# Altium footprint library CHXXX.pcblib: 161 footprints (part 7 of 11)
Each footprint in its own frame and in the unit in brackets; x right, y up, seen from the top. Pads: shape width x height; smd on the part's side, far side on the other; paste and mask are expansions set on the pad; w line width, h text height; cw(c..) or ccw(c..) is an arc to the next point about the centre after c.
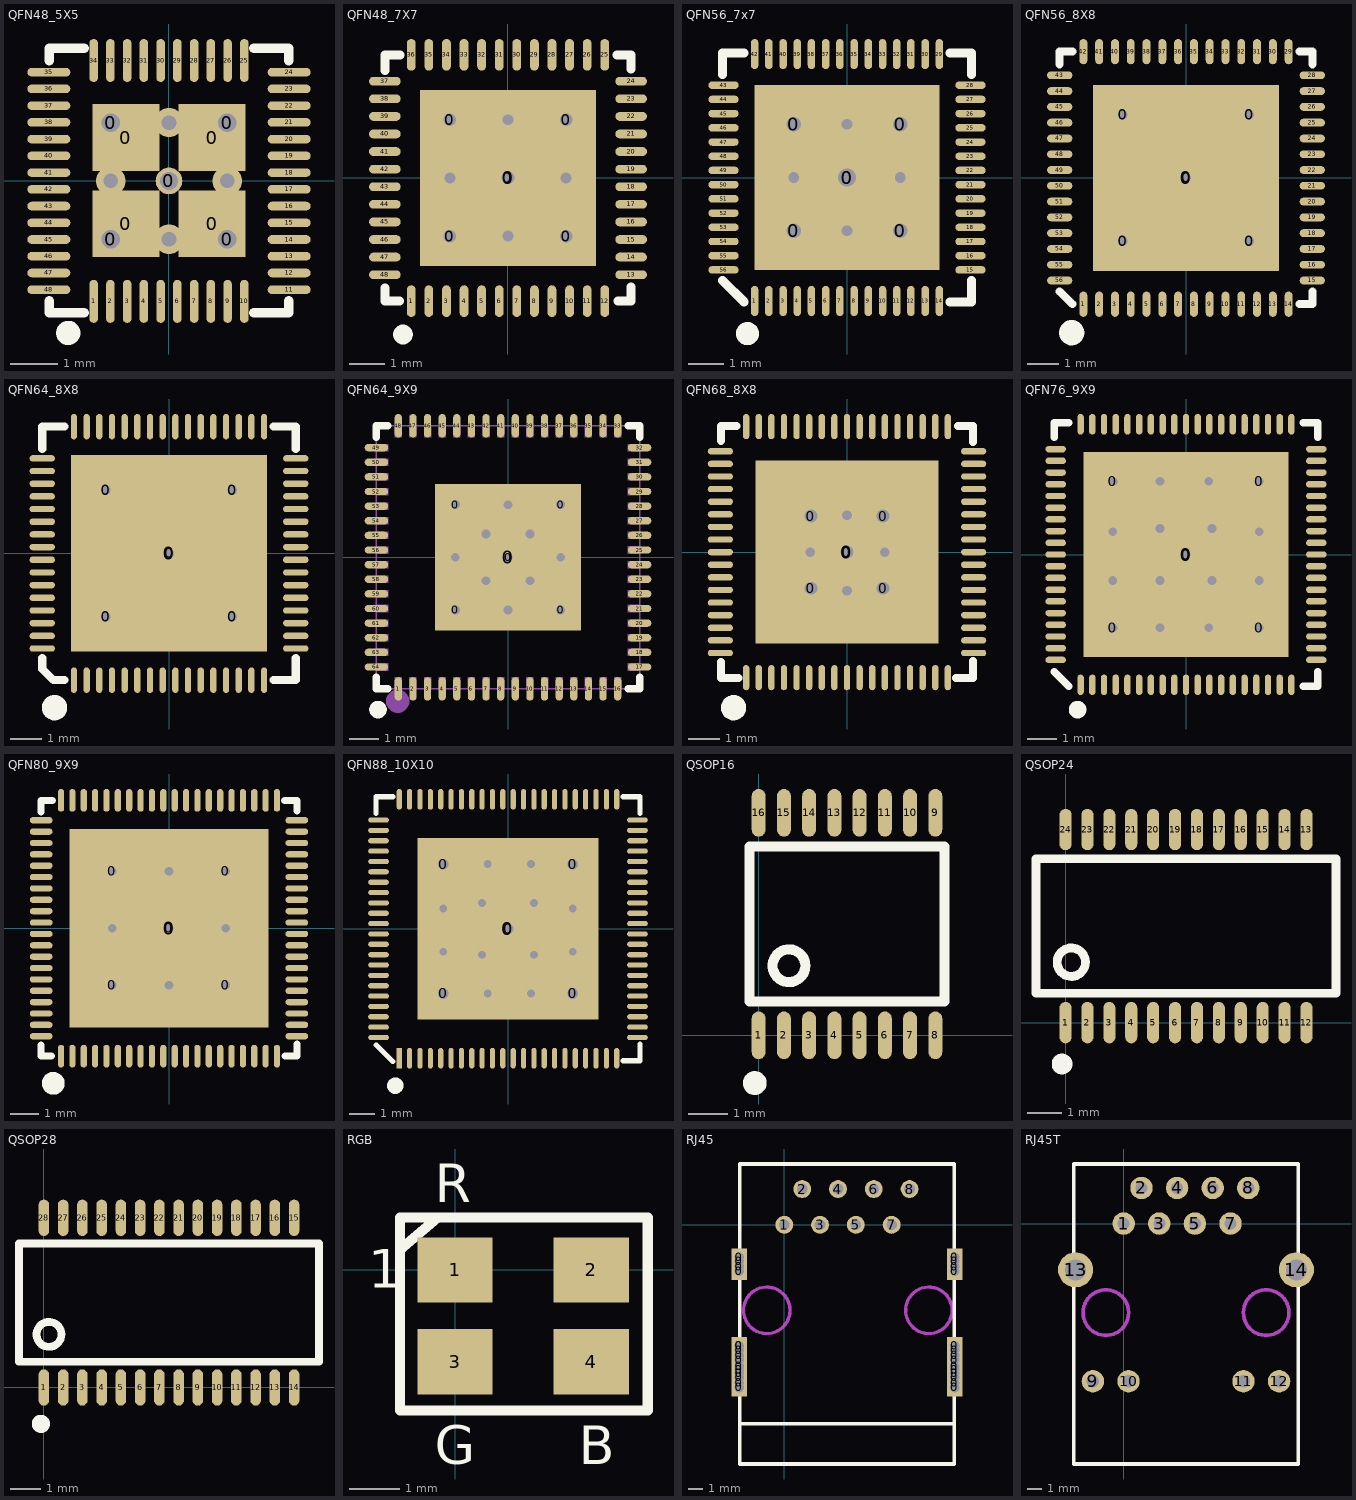
[diagram p6: the footprints below, top view; thin cyan lines are the x and y axes]

## QFN48_5X5 [mm]
pads (57):
  round 0.559 hole 0.381 mask+0.102: 0(-1.219,-1.219) 0(-1.219,1.219) 0(0,0) 0(1.219,-1.219) 0(1.219,1.219)
  rect 1.397x1.397 smd mask+0: 0(-0.901,-0.895) 0(-0.901,0.908) 0(0.902,-0.895) 0(0.902,0.908)
  oval 0.18x0.9 smd mask+0.051: 1(-1.575,-2.519) 2(-1.225,-2.519) 3(-0.875,-2.519) 4(-0.525,-2.519) 5(-0.175,-2.519) 6(0.175,-2.519) 7(0.525,-2.519) 8(0.875,-2.519) 9(1.225,-2.519) 10(1.575,-2.519) 25(1.575,2.519) 26(1.225,2.519) 27(0.875,2.519) 28(0.525,2.519) 29(0.175,2.519) 30(-0.175,2.519) 31(-0.525,2.519) 32(-0.875,2.519) 33(-1.225,2.519) 34(-1.575,2.519)
  oval 0.9x0.18 smd mask+0.051: 11(2.514,-2.275) 12(2.514,-1.925) 13(2.514,-1.575) 14(2.514,-1.225) 15(2.514,-0.875) 16(2.514,-0.525) 17(2.514,-0.175) 18(2.514,0.175) 19(2.514,0.525) 20(2.514,0.875) 21(2.514,1.225) 22(2.514,1.575) 23(2.514,1.925) 24(2.514,2.275) 35(-2.514,2.275) 36(-2.514,1.925) 37(-2.514,1.575) 38(-2.514,1.225) 39(-2.514,0.875) 40(-2.514,0.525) 41(-2.514,0.175) 42(-2.514,-0.175) 43(-2.514,-0.525) 44(-2.514,-0.875) 45(-2.514,-1.225) 46(-2.514,-1.575) 47(-2.514,-1.925) 48(-2.514,-2.275)
via 1.219,0 diameter 0.61 hole 0.305
via 0,-1.219 diameter 0.61 hole 0.305
via -1.219,0 diameter 0.61 hole 0.305
via 0,1.219 diameter 0.61 hole 0.305
TopOverlay:
  circle w0.254: c-2.108,-3.179 r0.127
  lines w0.2: -2.509,-2.506 -2.509,-2.76 -1.778,-2.76 ; -2.509,2.519 -2.509,2.772 -1.778,2.772 ; 1.778,-2.76 2.509,-2.76 2.509,-2.506 ; 1.778,2.772 2.509,2.772 2.509,2.519

## QFN48_7X7 [mm]
pads (54):
  round 0.559 hole 0.356 mask+0.102: 0(-1.651,-1.651) 0(-1.651,1.651) 0(0,0) 0(1.651,-1.651) 0(1.651,1.651)
  rect 5x5 smd mask+0.051: 0(0,0)
  oval 0.25x0.9 smd mask+0.051: 1(-2.75,-3.5) 2(-2.25,-3.5) 3(-1.75,-3.5) 4(-1.25,-3.5) 5(-0.75,-3.5) 6(-0.25,-3.5) 7(0.25,-3.5) 8(0.75,-3.5) 9(1.25,-3.5) 10(1.75,-3.5) 11(2.25,-3.5) 12(2.75,-3.5) 25(2.75,3.5) 26(2.25,3.5) 27(1.75,3.5) 28(1.25,3.5) 29(0.75,3.5) 30(0.25,3.5) 31(-0.25,3.5) 32(-0.75,3.5) 33(-1.25,3.5) 34(-1.75,3.5) 35(-2.25,3.5) 36(-2.75,3.5)
  oval 0.9x0.25 smd mask+0.051: 13(3.5,-2.75) 14(3.5,-2.25) 15(3.5,-1.75) 16(3.5,-1.25) 17(3.5,-0.75) 18(3.5,-0.25) 19(3.5,0.25) 20(3.5,0.75) 21(3.5,1.25) 22(3.5,1.75) 23(3.5,2.25) 24(3.5,2.75) 37(-3.5,2.75) 38(-3.5,2.25) 39(-3.5,1.75) 40(-3.5,1.25) 41(-3.5,0.75) 42(-3.5,0.25) 43(-3.5,-0.25) 44(-3.5,-0.75) 45(-3.5,-1.25) 46(-3.5,-1.75) 47(-3.5,-2.25) 48(-3.5,-2.75)
via -1.651,0 diameter 0.61 hole 0.305
via 0,1.651 diameter 0.61 hole 0.305
via 1.651,0 diameter 0.61 hole 0.305
via 0,-1.651 diameter 0.61 hole 0.305
TopOverlay:
  circle w0.305: c-2.986,-4.451 r0.127
  lines w0.254: -3.5,-3.128 -3.5,-3.5 -3.082,-3.5 ; -3.5,3.057 -3.5,3.5 -3.066,3.5 ; 3.099,3.5 3.5,3.5 3.5,3.096 ; 3.126,-3.5 3.5,-3.5 3.5,-3.104

## QFN56_7x7 [mm]
pads (62):
  round 0.762 hole 0.406: 0(-1.5,-1.5) 0(-1.5,1.5) 0(1.5,-1.5) 0(1.5,1.5)
  rect 5.2x5.2 smd mask+0.05: 0(0,0)
  round 0.889 hole 0.508: 0(0,0)
  oval 0.21x0.85 smd mask+0.051: 1(-2.6,-3.475) 2(-2.2,-3.475) 3(-1.8,-3.475) 4(-1.4,-3.475) 5(-1,-3.475) 6(-0.6,-3.475) 7(-0.2,-3.475) 8(0.2,-3.475) 9(0.6,-3.475) 10(1,-3.475) 11(1.4,-3.475) 12(1.8,-3.475) 13(2.2,-3.475) 14(2.6,-3.475) 29(2.6,3.475) 30(2.2,3.475) 31(1.8,3.475) 32(1.4,3.475) 33(1,3.475) 34(0.6,3.475) 35(0.2,3.475) 36(-0.2,3.475) 37(-0.6,3.475) 38(-1,3.475) 39(-1.4,3.475) 40(-1.8,3.475) 41(-2.2,3.475) 42(-2.6,3.475)
  oval 0.85x0.21 smd mask+0.051: 15(3.475,-2.6) 16(3.475,-2.2) 17(3.475,-1.8) 18(3.475,-1.4) 19(3.475,-1) 20(3.475,-0.6) 21(3.475,-0.2) 22(3.475,0.2) 23(3.475,0.6) 24(3.475,1) 25(3.475,1.4) 26(3.475,1.8) 27(3.475,2.2) 28(3.475,2.6) 43(-3.475,2.6) 44(-3.475,2.2) 45(-3.475,1.8) 46(-3.475,1.4) 47(-3.475,1) 48(-3.475,0.6) 49(-3.475,0.2) 50(-3.475,-0.2) 51(-3.475,-0.6) 52(-3.475,-1) 53(-3.475,-1.4) 54(-3.475,-1.8) 55(-3.475,-2.2) 56(-3.475,-2.6)
via -1.5,0 diameter 0.6 hole 0.3
via 0,1.5 diameter 0.6 hole 0.3
via 1.5,0 diameter 0.6 hole 0.3
via 0,-1.5 diameter 0.6 hole 0.3
TopOverlay:
  circle w0.35: c-2.803,-4.395 r0.15
  lines w0.254: -3.5,-2.899 -2.899,-3.5 ; -3.5,2.899 -3.5,3.5 -2.899,3.5 ; 2.899,-3.5 3.5,-3.5 3.5,-2.899 ; 2.899,3.5 3.5,3.5 3.5,2.899

## QFN56_8X8 [mm]
pads (62):
  round 0.61 hole 0.305 mask+0.051: 0(-2,-2) 0(-2,2) 0(0,0) 0(2,-2) 0(2,2)
  rect 5.9x5.9 smd mask+0.051: 0(0,0)
  oval 0.25x0.8 smd mask+0.051: 1(-3.25,-4) 2(-2.75,-4) 3(-2.25,-4) 4(-1.75,-4) 5(-1.25,-4) 6(-0.75,-4) 7(-0.25,-4) 8(0.25,-4) 9(0.75,-4) 10(1.25,-4) 11(1.75,-4) 12(2.25,-4) 13(2.75,-4) 14(3.25,-4) 29(3.25,4) 30(2.75,4) 31(2.25,4) 32(1.75,4) 33(1.25,4) 34(0.75,4) 35(0.25,4) 36(-0.25,4) 37(-0.75,4) 38(-1.25,4) 39(-1.75,4) 40(-2.25,4) 41(-2.75,4) 42(-3.25,4)
  oval 0.8x0.25 smd mask+0.051: 15(4,-3.25) 16(4,-2.75) 17(4,-2.25) 18(4,-1.75) 19(4,-1.25) 20(4,-0.75) 21(4,-0.25) 22(4,0.25) 23(4,0.75) 24(4,1.25) 25(4,1.75) 26(4,2.25) 27(4,2.75) 28(4,3.25) 43(-4,3.25) 44(-4,2.75) 45(-4,2.25) 46(-4,1.75) 47(-4,1.25) 48(-4,0.75) 49(-4,0.25) 50(-4,-0.25) 51(-4,-0.75) 52(-4,-1.25) 53(-4,-1.75) 54(-4,-2.25) 55(-4,-2.75) 56(-4,-3.25)
TopOverlay:
  circle w0.4: c-3.621,-4.903 r0.2
  lines w0.254: -4,-3.6 -3.6,-4 ; -4,3.6 -4,4 -3.6,4 ; 3.6,-4 4,-4 4,-3.6 ; 3.6,4 4,4 4,3.6

## QFN64_8X8 [mm]
pads (70):
  round 0.61 hole 0.305 mask+0.051: 0(-2,-2) 0(-2,2) 0(0,0) 0(2,-2) 0(2,2)
  rect 6.2x6.2 smd mask+0.051: 0(0,0)
  oval 0.2x0.8 smd mask+0.051: 1(-3,-4) 2(-2.6,-4) 3(-2.2,-4) 4(-1.8,-4) 5(-1.4,-4) 6(-1,-4) 7(-0.6,-4) 8(-0.2,-4) 9(0.2,-4) 10(0.6,-4) 11(1,-4) 12(1.4,-4) 13(1.8,-4) 14(2.2,-4) 15(2.6,-4) 16(3,-4) 33(3,4) 34(2.6,4) 35(2.2,4) 36(1.8,4) 37(1.4,4) 38(1,4) 39(0.6,4) 40(0.2,4) 41(-0.2,4) 42(-0.6,4) 43(-1,4) 44(-1.4,4) 45(-1.8,4) 46(-2.2,4) 47(-2.6,4) 48(-3,4)
  oval 0.8x0.2 smd mask+0.051: 17(4,-3) 18(4,-2.6) 19(4,-2.2) 20(4,-1.8) 21(4,-1.4) 22(4,-1) 23(4,-0.6) 24(4,-0.2) 25(4,0.2) 26(4,0.6) 27(4,1) 28(4,1.4) 29(4,1.8) 30(4,2.2) 31(4,2.6) 32(4,3) 49(-4,3) 50(-4,2.6) 51(-4,2.2) 52(-4,1.8) 53(-4,1.4) 54(-4,1) 55(-4,0.6) 56(-4,0.2) 57(-4,-0.2) 58(-4,-0.6) 59(-4,-1) 60(-4,-1.4) 61(-4,-1.8) 62(-4,-2.2) 63(-4,-2.6) 64(-4,-3)
TopOverlay:
  circle w0.4: c-3.613,-4.867 r0.2
  lines w0.254: -4,-3.3 -4,-3.65 -3.65,-4 -3.3,-4 ; -4,3.3 -4,4 -3.3,4 ; 3.3,-4 4,-4 4,-3.3 ; 3.3,4 4,4 4,3.3

## QFN64_9X9 [mm]
height 9.7
pads (70):
  round 0.508 hole 0.305 mask+0.051: 0(-1.8,-1.8) 0(-1.8,1.8) 0(0,0) 0(1.8,-1.8) 0(1.8,1.8)
  rect 5x5 smd mask+0.051: 0(0,0)
  oval 0.25x0.8 smd mask+0.051: 1(-3.75,-4.5) 2(-3.25,-4.5) 3(-2.75,-4.5) 4(-2.25,-4.5) 5(-1.75,-4.5) 6(-1.25,-4.5) 7(-0.75,-4.5) 8(-0.25,-4.5) 9(0.25,-4.5) 10(0.75,-4.5) 11(1.25,-4.5) 12(1.75,-4.5) 13(2.25,-4.5) 14(2.75,-4.5) 15(3.25,-4.5) 16(3.75,-4.5) 33(3.75,4.5) 34(3.25,4.5) 35(2.75,4.5) 36(2.25,4.5) 37(1.75,4.5) 38(1.25,4.5) 39(0.75,4.5) 40(0.25,4.5) 41(-0.25,4.5) 42(-0.75,4.5) 43(-1.25,4.5) 44(-1.75,4.5) 45(-2.25,4.5) 46(-2.75,4.5) 47(-3.25,4.5) 48(-3.75,4.5)
  oval 0.8x0.25 smd mask+0.051: 17(4.5,-3.75) 18(4.5,-3.25) 19(4.5,-2.75) 20(4.5,-2.25) 21(4.5,-1.75) 22(4.5,-1.25) 23(4.5,-0.75) 24(4.5,-0.25) 25(4.5,0.25) 26(4.5,0.75) 27(4.5,1.25) 28(4.5,1.75) 29(4.5,2.25) 30(4.5,2.75) 31(4.5,3.25) 32(4.5,3.75) 49(-4.5,3.75) 50(-4.5,3.25) 51(-4.5,2.75) 52(-4.5,2.25) 53(-4.5,1.75) 54(-4.5,1.25) 55(-4.5,0.75) 56(-4.5,0.25) 57(-4.5,-0.25) 58(-4.5,-0.75) 59(-4.5,-1.25) 60(-4.5,-1.75) 61(-4.5,-2.25) 62(-4.5,-2.75) 63(-4.5,-3.25) 64(-4.5,-3.75)
via -0.75,0.8 diameter 0.6 hole 0.3
via 0.75,0.8 diameter 0.6 hole 0.3
via 0.75,-0.8 diameter 0.6 hole 0.3
via -0.75,-0.8 diameter 0.6 hole 0.3
via -1.8,0 diameter 0.6 hole 0.3
via 0,1.8 diameter 0.6 hole 0.3
via 1.8,0 diameter 0.6 hole 0.3
via 0,-1.8 diameter 0.6 hole 0.3
TopOverlay:
  lines w0.254: -4.5,-4.106 -4.5,-4.5 -4.106,-4.5 ; -4.5,4.106 -4.5,4.5 -4.106,4.5 ; 4.106,-4.5 4.5,-4.5 4.5,-4.106 ; 4.106,4.5 4.5,4.5 4.5,4.106
  lines w0.3: -4.447,-5.057 ccw(c-4.445,-5.207) -4.443,-5.057
Mechanical6:
  circle w0.4: c-3.77,-4.92 r0.2
Mechanical15:
  drawing of 69 lines, arcs and shapes, not listed

## QFN68_8X8 [mm]
pads (74):
  round 0.559 hole 0.406: 0(-1.143,-1.143) 0(-1.143,1.143) 0(0,0) 0(1.143,-1.143) 0(1.143,1.143)
  rect 5.8x5.8 smd mask+0.051: 0(0,0)
  oval 0.2x0.8 smd mask+0.051: 1(-3.2,-3.982) 2(-2.8,-3.982) 3(-2.4,-3.982) 4(-2,-3.982) 5(-1.6,-3.982) 6(-1.2,-3.982) 7(-0.8,-3.982) 8(-0.4,-3.982) 9(0,-3.982) 10(0.4,-3.982) 11(0.8,-3.982) 12(1.2,-3.982) 13(1.6,-3.982) 14(2,-3.982) 15(2.4,-3.982) 16(2.8,-3.982) 17(3.2,-3.982) 35(3.2,3.982) 36(2.8,3.982) 37(2.4,3.982) 38(2,3.982) 39(1.6,3.982) 40(1.2,3.982) 41(0.8,3.982) 42(0.4,3.982) 43(0,3.982) 44(-0.4,3.982) 45(-0.8,3.982) 46(-1.2,3.982) 47(-1.6,3.982) 48(-2,3.982) 49(-2.4,3.982) 50(-2.8,3.982) 51(-3.2,3.982)
  oval 0.8x0.2 smd mask+0.051: 18(4.018,-3.2) 19(4.018,-2.8) 20(4.018,-2.4) 21(4.018,-2) 22(4.018,-1.6) 23(4.018,-1.2) 24(4.018,-0.8) 25(4.018,-0.4) 26(4.018,0) 27(4.018,0.4) 28(4.018,0.8) 29(4.018,1.2) 30(4.018,1.6) 31(4.018,2) 32(4.018,2.4) 33(4.018,2.8) 34(4.018,3.2) 52(-4.018,3.2) 53(-4.018,2.8) 54(-4.018,2.4) 55(-4.018,2) 56(-4.018,1.6) 57(-4.018,1.2) 58(-4.018,0.8) 59(-4.018,0.4) 60(-4.018,0) 61(-4.018,-0.4) 62(-4.018,-0.8) 63(-4.018,-1.2) 64(-4.018,-1.6) 65(-4.018,-2) 66(-4.018,-2.4) 67(-4.018,-2.8) 68(-4.018,-3.2)
via 1.194,0 diameter 0.61 hole 0.305
via 0,-1.219 diameter 0.61 hole 0.305
via -1.168,0 diameter 0.61 hole 0.305
via 0,1.168 diameter 0.61 hole 0.305
TopOverlay:
  circle w0.4: c-3.599,-4.935 r0.2
  lines w0.254: -4,-3.492 -4,-4 -3.447,-4 ; -4,3.534 -4,4 -3.503,4 ; 3.459,-4 4,-4 4,-3.458 ; 3.517,4 4,4 4,3.498

## QFN76_9X9 [mm]
pads (82):
  round 0.61 hole 0.305 mask+0.051: 0(-2.5,-2.5) 0(-2.5,2.5) 0(0,0) 0(2.5,-2.5) 0(2.5,2.5)
  rect 7x7 smd mask+0.051: 0(0,0)
  oval 0.22x0.7 smd mask+0.051: 1(-3.6,-4.45) 2(-3.2,-4.45) 3(-2.8,-4.45) 4(-2.4,-4.45) 5(-2,-4.45) 6(-1.6,-4.45) 7(-1.2,-4.45) 8(-0.8,-4.45) 9(-0.4,-4.45) 10(0,-4.45) 11(0.4,-4.45) 12(0.8,-4.45) 13(1.2,-4.45) 14(1.6,-4.45) 15(2,-4.45) 16(2.4,-4.45) 17(2.8,-4.45) 18(3.2,-4.45) 19(3.6,-4.45) 39(3.6,4.45) 40(3.2,4.45) 41(2.8,4.45) 42(2.4,4.45) 43(2,4.45) 44(1.6,4.45) 45(1.2,4.45) 46(0.8,4.45) 47(0.4,4.45) 48(0,4.45) 49(-0.4,4.45) 50(-0.8,4.45) 51(-1.2,4.45) 52(-1.6,4.45) 53(-2,4.45) 54(-2.4,4.45) 55(-2.8,4.45) 56(-3.2,4.45) 57(-3.6,4.45)
  oval 0.7x0.22 smd mask+0.051: 20(4.45,-3.6) 21(4.45,-3.2) 22(4.45,-2.8) 23(4.45,-2.4) 24(4.45,-2) 25(4.45,-1.6) 26(4.45,-1.2) 27(4.45,-0.8) 28(4.45,-0.4) 29(4.45,0) 30(4.45,0.4) 31(4.45,0.8) 32(4.45,1.2) 33(4.45,1.6) 34(4.45,2) 35(4.45,2.4) 36(4.45,2.8) 37(4.45,3.2) 38(4.45,3.6) 58(-4.45,3.6) 59(-4.45,3.2) 60(-4.45,2.8) 61(-4.45,2.4) 62(-4.45,2) 63(-4.45,1.6) 64(-4.45,1.2) 65(-4.45,0.8) 66(-4.45,0.4) 67(-4.45,0) 68(-4.45,-0.4) 69(-4.45,-0.8) 70(-4.45,-1.2) 71(-4.45,-1.6) 72(-4.45,-2) 73(-4.45,-2.4) 74(-4.45,-2.8) 75(-4.45,-3.2) 76(-4.45,-3.6)
via -0.889,0.887 diameter 0.6 hole 0.3
via -0.889,-0.887 diameter 0.6 hole 0.3
via 0.889,-0.887 diameter 0.6 hole 0.3
via 0.889,0.887 diameter 0.6 hole 0.3
via -0.889,2.5 diameter 0.6 hole 0.3
via 0.778,2.5 diameter 0.6 hole 0.3
via 2.5,0.778 diameter 0.6 hole 0.3
via 2.5,-0.889 diameter 0.6 hole 0.3
via 0.778,-2.5 diameter 0.6 hole 0.3
via -0.889,-2.5 diameter 0.6 hole 0.3
via -2.5,-0.889 diameter 0.6 hole 0.3
via -2.5,0.778 diameter 0.6 hole 0.3
TopOverlay:
  circle w0.3: c-3.704,-5.297 r0.15
  lines w0.254: -4.5,-4 -4,-4.5 ; -4.5,4 -4.5,4.5 -4,4.5 ; 4,-4.5 4.5,-4.5 4.5,-4 ; 4,4.5 4.5,4.5 4.5,4

## QFN80_9X9 [mm]
pads (86):
  round 0.61 hole 0.305 mask+0.051: 0(-2,-2) 0(-2,2) 0(0,0) 0(2,-2) 0(2,2)
  rect 7x7 smd mask+0.051: 0(0,0)
  oval 0.22x0.8 smd mask+0.051: 1(-3.8,-4.5) 2(-3.4,-4.5) 3(-3,-4.5) 4(-2.6,-4.5) 5(-2.2,-4.5) 6(-1.8,-4.5) 7(-1.4,-4.5) 8(-1,-4.5) 9(-0.6,-4.5) 10(-0.2,-4.5) 11(0.2,-4.5) 12(0.6,-4.5) 13(1,-4.5) 14(1.4,-4.5) 15(1.8,-4.5) 16(2.2,-4.5) 17(2.6,-4.5) 18(3,-4.5) 19(3.4,-4.5) 20(3.8,-4.5) 41(3.8,4.5) 42(3.4,4.5) 43(3,4.5) 44(2.6,4.5) 45(2.2,4.5) 46(1.8,4.5) 47(1.4,4.5) 48(1,4.5) 49(0.6,4.5) 50(0.2,4.5) 51(-0.2,4.5) 52(-0.6,4.5) 53(-1,4.5) 54(-1.4,4.5) 55(-1.8,4.5) 56(-2.2,4.5) 57(-2.6,4.5) 58(-3,4.5) 59(-3.4,4.5) 60(-3.8,4.5)
  oval 0.8x0.22 smd mask+0.051: 21(4.5,-3.8) 22(4.5,-3.4) 23(4.5,-3) 24(4.5,-2.6) 25(4.5,-2.2) 26(4.5,-1.8) 27(4.5,-1.4) 28(4.5,-1) 29(4.5,-0.6) 30(4.5,-0.2) 31(4.5,0.2) 32(4.5,0.6) 33(4.5,1) 34(4.5,1.4) 35(4.5,1.8) 36(4.5,2.2) 37(4.5,2.6) 38(4.5,3) 39(4.5,3.4) 40(4.5,3.8) 61(-4.5,3.8) 62(-4.5,3.4) 63(-4.5,3) 64(-4.5,2.6) 65(-4.5,2.2) 66(-4.5,1.8) 67(-4.5,1.4) 68(-4.5,1) 69(-4.5,0.6) 70(-4.5,0.2) 71(-4.5,-0.2) 72(-4.5,-0.6) 73(-4.5,-1) 74(-4.5,-1.4) 75(-4.5,-1.8) 76(-4.5,-2.2) 77(-4.5,-2.6) 78(-4.5,-3) 79(-4.5,-3.4) 80(-4.5,-3.8)
via -2,0 diameter 0.6 hole 0.3
via 0,-2 diameter 0.6 hole 0.3
via 2,0 diameter 0.6 hole 0.3
via 0,2 diameter 0.6 hole 0.3
TopOverlay:
  circle w0.4: c-4.073,-5.457 r0.2
  lines w0.254: -4.5,-4.121 -4.5,-4.5 -4.135,-4.5 ; -4.5,4.095 -4.5,4.5 -4.095,4.5 ; 4.069,4.5 4.5,4.5 4.5,4.137 ; 4.082,-4.5 4.5,-4.5 4.5,-4.079

## QFN88_10X10 [mm]
pads (94):
  round 0.711 hole 0.406 mask+0.051: 0(-2.5,-2.5) 0(-2.5,2.5) 0(0,0) 0(2.5,-2.5) 0(2.5,2.5)
  rect 7x7 smd mask+0.051: 0(0,0)
  rect 0.2x0.8 smd mask+0.051: 1(-4.2,-5)
  oval 0.2x0.8 smd mask+0.051: 2(-3.8,-5) 3(-3.4,-5) 4(-3,-5) 5(-2.6,-5) 6(-2.2,-5) 7(-1.8,-5) 8(-1.4,-5) 9(-1,-5) 10(-0.6,-5) 11(-0.2,-5) 12(0.2,-5) 13(0.6,-5) 14(1,-5) 15(1.4,-5) 16(1.8,-5) 17(2.2,-5) 18(2.6,-5) 19(3,-5) 20(3.4,-5) 21(3.8,-5) 22(4.2,-5) 45(4.2,5) 46(3.8,5) 47(3.4,5) 48(3,5) 49(2.6,5) 50(2.2,5) 51(1.8,5) 52(1.4,5) 53(1,5) 54(0.6,5) 55(0.2,5) 56(-0.2,5) 57(-0.6,5) 58(-1,5) 59(-1.4,5) 60(-1.8,5) 61(-2.2,5) 62(-2.6,5) 63(-3,5) 64(-3.4,5) 65(-3.8,5) 66(-4.2,5)
  oval 0.8x0.2 smd mask+0.051: 23(5,-4.2) 24(5,-3.8) 25(5,-3.4) 26(5,-3) 27(5,-2.6) 28(5,-2.2) 29(5,-1.8) 30(5,-1.4) 31(5,-1) 32(5,-0.6) 33(5,-0.2) 34(5,0.2) 35(5,0.6) 36(5,1) 37(5,1.4) 38(5,1.8) 39(5,2.2) 40(5,2.6) 41(5,3) 42(5,3.4) 43(5,3.8) 44(5,4.2) 67(-5,4.2) 68(-5,3.8) 69(-5,3.4) 70(-5,3) 71(-5,2.6) 72(-5,2.2) 73(-5,1.8) 74(-5,1.4) 75(-5,1) 76(-5,0.6) 77(-5,0.2) 78(-5,-0.2) 79(-5,-0.6) 80(-5,-1) 81(-5,-1.4) 82(-5,-1.8) 83(-5,-2.2) 84(-5,-2.6) 85(-5,-3) 86(-5,-3.4) 87(-5,-3.8) 88(-5,-4.2)
via 0.884,-2.5 diameter 0.6 hole 0.3
via -0.783,-2.5 diameter 0.6 hole 0.3
via -2.5,-0.884 diameter 0.6 hole 0.3
via 0.884,2.5 diameter 0.6 hole 0.3
via -2.5,0.783 diameter 0.6 hole 0.3
via 2.5,-0.884 diameter 0.6 hole 0.3
via 2.5,0.783 diameter 0.6 hole 0.3
via -0.783,2.5 diameter 0.6 hole 0.3
via -1,1 diameter 0.6 hole 0.3
via -1,-1 diameter 0.6 hole 0.3
via 1,-1 diameter 0.6 hole 0.3
via 1,1 diameter 0.6 hole 0.3
TopOverlay:
  circle w0.381: c-4.352,-6.062 r0.127
  lines w0.2: -5.1,4.45 -5.1,5.1 -4.45,5.1 ; 4.45,-5.1 5.1,-5.1 5.1,-4.45 ; 4.45,5.1 5.1,5.1 5.1,4.45
  lines w0.203: -5.089,-4.492 -4.454,-5.127

## QSOP16 [mm]
pads (16):
  oval 0.35x1.2 smd mask+0.051: 1(0,0) 2(0.635,0) 3(1.27,0) 4(1.905,0) 5(2.54,0) 6(3.175,0) 7(3.81,0) 8(4.445,0) 9(4.445,5.6) 10(3.81,5.6) 11(3.175,5.6) 12(2.54,5.6) 13(1.905,5.6) 14(1.27,5.6) 15(0.635,5.6) 16(0,5.6)
TopOverlay:
  circle w0.3: c-0.1,-1.2 r0.15
  circle w0.254: c0.762,1.752 r0.412
  lines w0.254: -0.227,0.85 -0.227,4.75 4.673,4.75 4.673,0.85 -0.227,0.85

## QSOP24 [mm]
pads (24):
  oval 0.35x1.2 smd mask+0.051: 1(0,0) 2(0.635,0) 3(1.27,0) 4(1.905,0) 5(2.54,0) 6(3.175,0) 7(3.81,0) 8(4.445,0) 9(5.08,0) 10(5.715,0) 11(6.35,0) 12(6.985,0) 13(6.985,5.6) 14(6.35,5.6) 15(5.715,5.6) 16(5.08,5.6) 17(4.445,5.6) 18(3.81,5.6) 19(3.175,5.6) 20(2.54,5.6) 21(1.905,5.6) 22(1.27,5.6) 23(0.635,5.6) 24(0,5.6)
TopOverlay:
  circle w0.3: c-0.1,-1.2 r0.15
  circle w0.254: c0.167,1.752 r0.412
  lines w0.254: -0.857,0.85 -0.857,4.75 7.843,4.75 7.843,0.85 -0.857,0.85

## QSOP28 [mm]
pads (28):
  oval 0.35x1.2 smd mask+0.051: 1(0,0) 2(0.635,0) 3(1.27,0) 4(1.905,0) 5(2.54,0) 6(3.175,0) 7(3.81,0) 8(4.445,0) 9(5.08,0) 10(5.715,0) 11(6.35,0) 12(6.985,0) 13(7.62,0) 14(8.255,0) 15(8.255,5.6) 16(7.62,5.6) 17(6.985,5.6) 18(6.35,5.6) 19(5.715,5.6) 20(5.08,5.6) 21(4.445,5.6) 22(3.81,5.6) 23(3.175,5.6) 24(2.54,5.6) 25(1.905,5.6) 26(1.27,5.6) 27(0.635,5.6) 28(0,5.6)
TopOverlay:
  circle w0.254: c0.167,1.752 r0.412
  circle w0.3: c-0.1,-1.2 r0.15
  lines w0.254: -0.823,0.85 9.078,0.85 9.078,4.75 -0.823,4.75 -0.823,0.85

## RGB [mm]
pads (4):
  rect 1.5x1.3 smd: 1(0,0) 2(2.71,0) 3(0,-1.825) 4(2.71,-1.825)
TopOverlay:
  lines w0.203: -1.09,0.404 -0.352,1.037 ; -1.092,-2.794 3.835,-2.794 3.835,1.041 -1.092,1.041 -1.092,-2.794
  text "B" at 2.464,-3.861 h0.76
  text "G" at -0.406,-3.861 h0.76
  text "R" at -0.406,1.346 h0.76
  text "1" at -1.727,-0.356 h0.76

## RJ45 [mm]
pads (37):
  rect 1.1x1.27 hole 0.701: 0(-3.2,-11.541) 0(-3.2,-11.212) 0(-3.2,-10.831) 0(-3.2,-10.541) 0(-3.2,-10.287) 0(-3.2,-10.033) 0(-3.2,-9.6) 0(-3.2,-9.271) 0(-3.2,-8.89) 0(-3.2,-8.6) 0(-3.2,-8.6) 0(-3.2,-3.3) 0(-3.2,-2.971) 0(-3.2,-2.59) 0(-3.2,-2.3) 0(12.1,-11.541) 0(12.1,-11.212) 0(12.1,-10.831) 0(12.1,-10.541) 0(12.1,-10.287) 0(12.1,-10.033) 0(12.1,-9.6) 0(12.1,-9.271) 0(12.1,-8.89) 0(12.1,-8.6) 0(12.1,-3.3) 0(12.1,-2.971) 0(12.1,-2.59) 0(12.1,-2.3)
  round 1.27 hole 0.762: 1(0,0) 2(1.27,2.54) 3(2.54,0) 4(3.81,2.54) 5(5.08,0) 6(6.35,2.54) 7(7.62,0) 8(8.89,2.54)
TopOverlay:
  lines w0.254: -3.175,-14.132 12.065,-14.132 ; 12.065,-13.335 12.065,4.318 ; 12.065,4.318 -3.175,4.318 -3.175,-16.982 12.065,-16.982 12.065,4.318
KeepOutLayer:
  circle w0.229: c10.262,-6.071 r1.651
  circle w0.229: c-1.245,-6.071 r1.651
Mechanical1:
  circle w0.229: c10.262,-6.071 r1.651
  circle w0.229: c-1.245,-6.071 r1.651

## RJ45T [mm]
pads (14):
  round 1.6 hole 0.85: 1(0,0) 2(1.27,2.54) 3(2.54,0) 4(3.81,2.54) 5(5.08,0) 6(6.35,2.54) 7(7.62,0) 8(8.89,2.54)
  round 1.6 hole 0.9: 9(-2.195,-11.25) 10(0.345,-11.25) 11(8.545,-11.25) 12(11.085,-11.25)
  round 2.5 hole 1.5: 13(-3.43,-3.3) 14(12.32,-3.3)
TopOverlay:
  lines w0.254: -3.555,-17.15 12.445,-17.15 12.445,4.25 -3.555,4.25 -3.555,-17.15
KeepOutLayer:
  circle w0.254: c-1.27,-6.35 r1.625
  circle w0.254: c10.16,-6.35 r1.625
Mechanical1:
  circle w0.254: c-1.27,-6.35 r1.625
  circle w0.254: c10.16,-6.35 r1.625